# Altium schematic symbol library Optocouplers.SchLib: 49 symbols
Pins are listed as number, name and electrical type; pins without a type are passive.

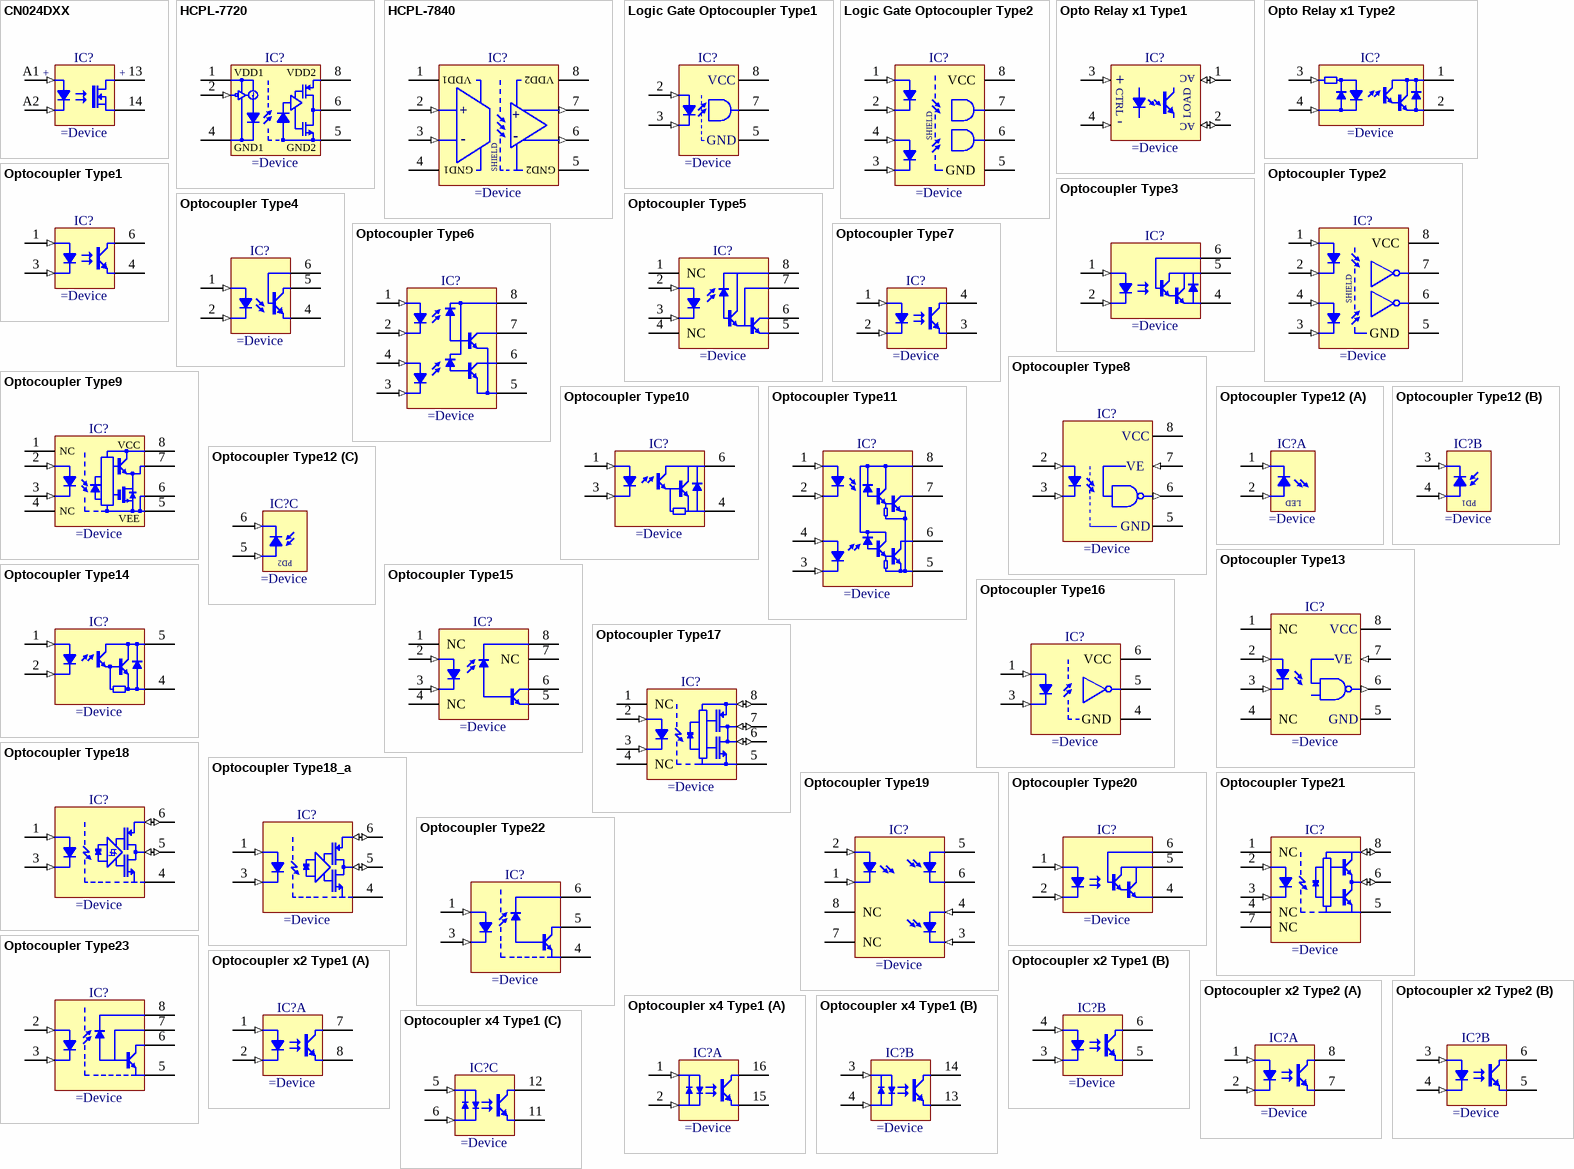
[diagram p0: symbols CN024DXX to Optocoupler x4 Type1]

## CN024DXX
designator IC?
24VDC Solid State Relay
pins: 13, 14, A1 (in), A2 (in)
text: +

## HCPL-7720
designator IC?
40ns Propagation Delay, CMOS Optocoupler
pins: 1 VDD1 (power), 2 VI (in), 3 NC hidden, 4 GND1 (power), 5 GND2 (power), 6 VO (oc), 7 NC hidden, 8 VDD2 (power)

## HCPL-7840
designator IC?
Isolation Amplifier
pins: 1 VDD1 (power), 2 VP (in), 3 VN (in), 4 GND1 (power), 5 GND2 (power), 6 VOUT- (out), 7 VOUT+ (out), 8 VDD2 (power)
text: +; -; SHIELD

## Logic Gate Optocoupler Type1
designator IC?
Logic Gate Optocoupler
pins: 2 A (in), 3 K (in), 5 GND (power), 7 VB, 8 VCC (power)

## Logic Gate Optocoupler Type2
designator IC?
Logic Gate Optocoupler
pins: 1 A1 (in), 2 C1 (in), 3 C2 (in), 4 A2 (in), 5 GND (power), 6 VO2 (oc), 7 VO1 (oc), 8 VCC (power)
text: SHIELD

## Opto Relay x1 Type1
designator IC?
Opto Relay x1 Type1
pins: 1 AC (io), 2 AC (io), 3 + (in), 4 - (in)
text: CTRL; LOAD

## Opto Relay x1 Type2
designator IC?
Opto Relay x1 Type2
pins: 1 1+ (oc), 2 2- (oe), 3 3+ (in), 4 4- (in)

## Optocoupler Type1
designator IC?
Single Optocoupler
pins: 1 A (in), 3 C (in), 4 E (oe), 6 C (oc)

## Optocoupler Type2
designator IC?
Dual Optocoupler
pins: 1 A1 (in), 2 C1 (in), 3 C2 (in), 4 A2 (in), 5 GND (power), 6 VO2 (oc), 7 VO1 (oc), 8 VCC (power)
text: SHIELD

## Optocoupler Type3
designator IC?
Photodarlington Optocouplers
pins: 1 A (in), 2 C (in), 4 E (oe), 5 C (oc), 6 B (oc)

## Optocoupler Type4
designator IC?
Single Optocoupler with Base
pins: 1 A (in), 2 C (in), 4 E (oe), 5 C (oc), 6 C (oc)

## Optocoupler Type5
designator IC?
Photodarlington Optocouplers
pins: 1 NC, 2 A (in), 3 C (in), 4 NC, 5 GND (oe), 6 C (oc), 7 VB, 8 VCC (oc)

## Optocoupler Type6
designator IC?
Dual Channel, Optocouplers
pins: 1 A (in), 2 C (in), 3 C (in), 4 A (in), 5 GND (oe), 6 C (oc), 7 VB, 8 VCC (oc)

## Optocoupler Type7
designator IC?
Single Optocoupler
pins: 1 A (in), 2 C (in), 3 E (oe), 4 C (oc)

## Optocoupler Type8
designator IC?
Single Optocoupler
pins: 2 A (in), 3 K (in), 5 GND (power), 6 VO (out), 7 VE (in), 8 VCC (power)

## Optocoupler Type9
designator IC?
Single Optocouplers
pins: 1 NC, 2 A (in), 3 C (in), 4 NC, 5 GND (oe), 6 C (oc), 7 VB, 8 VCC (oc)
text: VEE

## Optocoupler Type10
designator IC?
Photocoupler
pins: 1 A (in), 3 C (in), 4 E (oe), 6 C (oc)

## Optocoupler Type11
designator IC?
Dual Photodarlington Optocouplers
pins: 1 A (in), 2 C (in), 3 C (in), 4 A (in), 5 GND (power), 6 VO2 (oc), 7 VO1 (oc), 8 VCC (power)

## Optocoupler Type12
designator IC?
High-Linearity Analog Optocoupler
part A pins: 1 C (in), 2 A (in)
part B pins: 3 C (in), 4 A (in)
part C pins: 5 A (in), 6 C (in)
part A text: LED
part B text: PD1
part C text: PD2

## Optocoupler Type13
designator IC?
Single Optocoupler
pins: 1 NC, 2 A (in), 3 K (in), 4 NC, 5 GND (power), 6 VO (out), 7 VE (in), 8 VCC (power)

## Optocoupler Type14
designator IC?
Photocoupler
pins: 1 A (in), 2 C (in), 4 E (oe), 5 C (oc)

## Optocoupler Type15
designator IC?
Optocoupler
pins: 1 NC, 2 A (in), 3 C (in), 4 NC, 5 GND (oe), 6 Vo (oc), 7 NC, 8 VCC (oc)

## Optocoupler Type16
designator IC?
Single Optocoupler
pins: 1 A (in), 3 K (in), 4 GND (power), 5 VO (oc), 6 VCC (power)

## Optocoupler Type17
designator IC?
Optocoupler
pins: 1 NC (power), 2 A (in), 3 K (in), 4 NC, 5 VSS (power), 6 VO1 (io), 7 VO2 (io), 8 VDD (io)

## Optocoupler Type18
designator IC?
Optocoupler
pins: 1 A (in), 3 K (in), 4 GND (power), 5 VO (io), 6 VDD (io)

## Optocoupler Type18_a
designator IC?
Optocoupler
pins: 1 A (in), 3 K (in), 4 GND (power), 5 VO (io), 6 VDD (io)

## Optocoupler Type19
designator IC?
Dual Channel, Optocouplers
pins: 1 A (in), 2 C (in), 3 C (in), 4 A (in), 5 GND (oe), 6 C (oc), 7 NC, 8 NC (oc)

## Optocoupler Type20
designator IC?
Photodarlington Optocouplers
pins: 1 A (in), 2 C (in), 4 E (oe), 5 C (oc), 6 B (oc)

## Optocoupler Type21
designator IC?
Optocoupler
pins: 1 NC (power), 2 A (in), 3 K (in), 4 NC, 5 VEE (power), 6 VO (io), 7 NC, 8 VCC (io)

## Optocoupler Type22
designator IC?
Single Optocoupler
pins: 1 A (in), 3 C (in), 4 GND (oe), 5 Vo (oc), 6 VCC (oc)

## Optocoupler Type23
designator IC?
Single Optocoupler
pins: 2 A (in), 3 C (in), 5 GND (oe), 6 Vo (oc), 7 VB (oc), 8 VCC (oc)

## Optocoupler x2 Type1
designator IC?
Dual Optocoupler
part A pins: 1 A (in), 2 K (in), 7 C (oc), 8 E (oe)
part B pins: 3 K (in), 4 A (in), 5 E (oe), 6 C (oc)

## Optocoupler x2 Type2
designator IC?
Dual Optocoupler
part A pins: 1 A (in), 2 K (in), 7 E (oc), 8 C (oe)
part B pins: 3 A (in), 4 K (in), 5 E (oe), 6 C (oc)

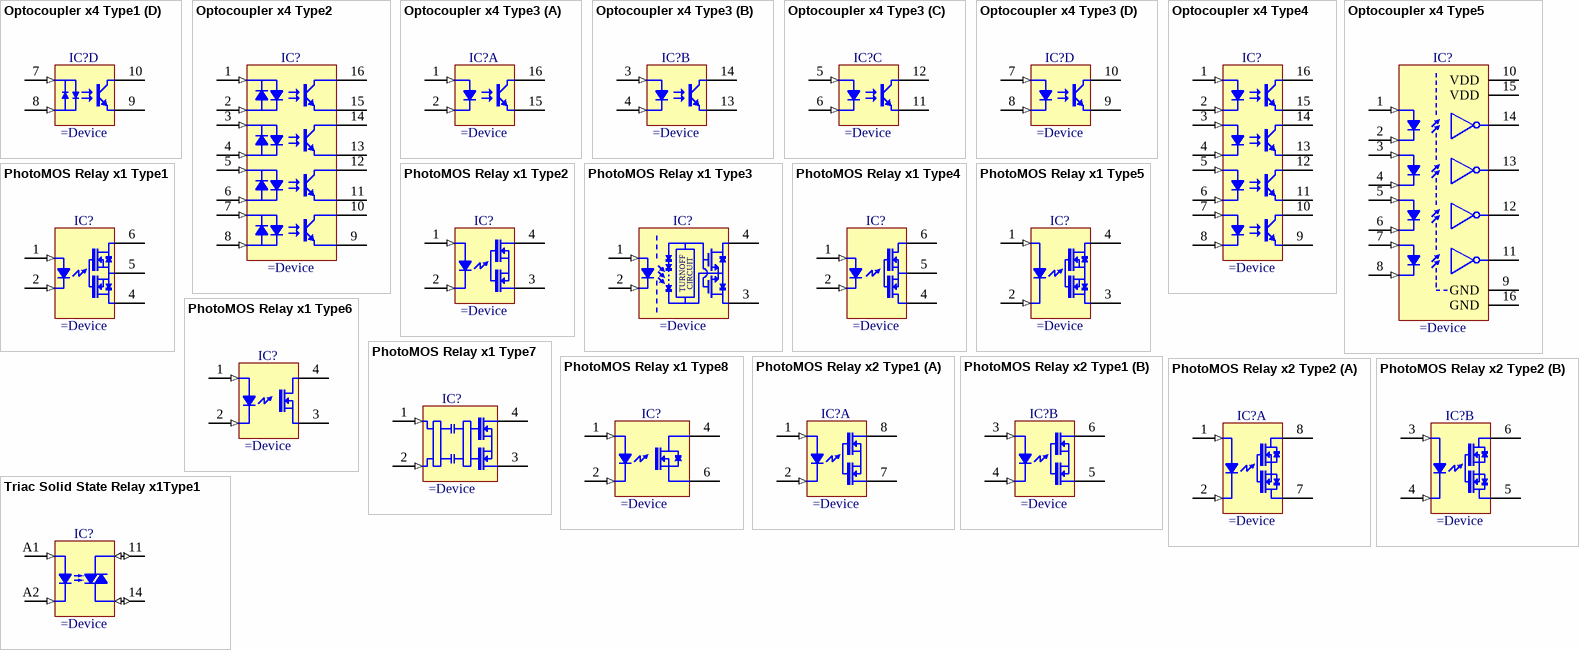
[diagram p1: symbols Optocoupler x4 Type1 to Triac Solid State Relay x1Type1]

## Optocoupler x4 Type1
designator IC?
Quad Optocoupler
part A pins: 1 A (in), 2 K (in), 15 E (oe), 16 C (oc)
part B pins: 3 A (in), 4 K (in), 13 E (oe), 14 C (oc)
part C pins: 5 A (in), 6 K (in), 11 E (oe), 12 C (oc)
part D pins: 7 A (in), 8 K (in), 9 E (oe), 10 C (oc)

## Optocoupler x4 Type2
designator IC?
Quad Optocoupler
pins: 1 A (in), 2 K (in), 3 A (in), 4 K (in), 5 A (in), 6 K (in), 7 A (in), 8 K (in), 9 E (oe), 10 C (oc), 11 E (oe), 12 C (oc), 13 E (oe), 14 C (oc), 15 E (oe), 16 C (oc)

## Optocoupler x4 Type3
designator IC?
Quad Optocoupler
part A pins: 1 A (in), 2 K (in), 15 E (oe), 16 C (oc)
part B pins: 3 A (in), 4 K (in), 13 E (oe), 14 C (oc)
part C pins: 5 A (in), 6 K (in), 11 E (oe), 12 C (oc)
part D pins: 7 A (in), 8 K (in), 9 E (oe), 10 C (oc)

## Optocoupler x4 Type4
designator IC?
Quad Optocoupler
pins: 1 A (in), 2 K (in), 3 A (in), 4 K (in), 5 A (in), 6 K (in), 7 A (in), 8 K (in), 9 E (oe), 10 C (oc), 11 E (oe), 12 C (oc), 13 E (oe), 14 C (oc), 15 E (oe), 16 C (oc)

## Optocoupler x4 Type5
designator IC?
Quad Optocoupler
pins: 1 A (in), 2 K (in), 3 A (in), 4 K (in), 5 A (in), 6 K (in), 7 A (in), 8 K (in), 9 GND (power), 10 VDD (power), 11 Vo4 (oc), 12 Vo3 (oc), 13 Vo2 (oc), 14 Vo1 (oc), 15 VDD (power), 16 GND (power)

## PhotoMOS Relay x1 Type1
designator IC?
PhotoMOS Relay
pins: 1 A (in), 2 K (in), 4, 5, 6

## PhotoMOS Relay x1 Type2
designator IC?
PhotoMOS Relay
pins: 1 A (in), 2 K (in), 3 C (oc), 4 E (oe)

## PhotoMOS Relay x1 Type3
designator IC?
PhotoMOS Relay
pins: 1 A (in), 2 K (in), 3, 4
text: TURNOFF; CIRCUIT

## PhotoMOS Relay x1 Type4
designator IC?
PhotoMOS Relay
pins: 1 A (in), 2 K (in), 4, 5, 6

## PhotoMOS Relay x1 Type5
designator IC?
PhotoMOS Relay
pins: 1 A (in), 2 K (in), 3 C (oc), 4 E (oe)

## PhotoMOS Relay x1 Type6
designator IC?
PhotoMOS Relay
pins: 1 A (in), 2 K (in), 3, 4

## PhotoMOS Relay x1 Type7
designator IC?
PhotoMOS Relay
pins: 1 A (in), 2 K (in), 3 C (oc), 4 E (oe)

## PhotoMOS Relay x1 Type8
designator IC?
PhotoMOS Relay
pins: 1 A (in), 2 K (in), 4, 6

## PhotoMOS Relay x2 Type1
designator IC?
Dual PhotoMOS Relay
part A pins: 1 A (in), 2 K (in), 7 C (oc), 8 E (oe)
part B pins: 3 A (in), 4 K (in), 5 E (oe), 6 C (oc)

## PhotoMOS Relay x2 Type2
designator IC?
Dual PhotoMOS Relay
part A pins: 1 A (in), 2 K (in), 7 C (oc), 8 E (oe)
part B pins: 3 A (in), 4 K (in), 5 (oe), 6 (oc)

## Triac Solid State Relay x1Type1
designator IC?
Triac Solid State Relay
pins: 11 (io), 14 (io), A1 (in), A2 (in)